# EAGLE library part 74F579SCX (library Fairchild_By_element14_Batch_1)
8-Bit Bidirectional Binary Counter
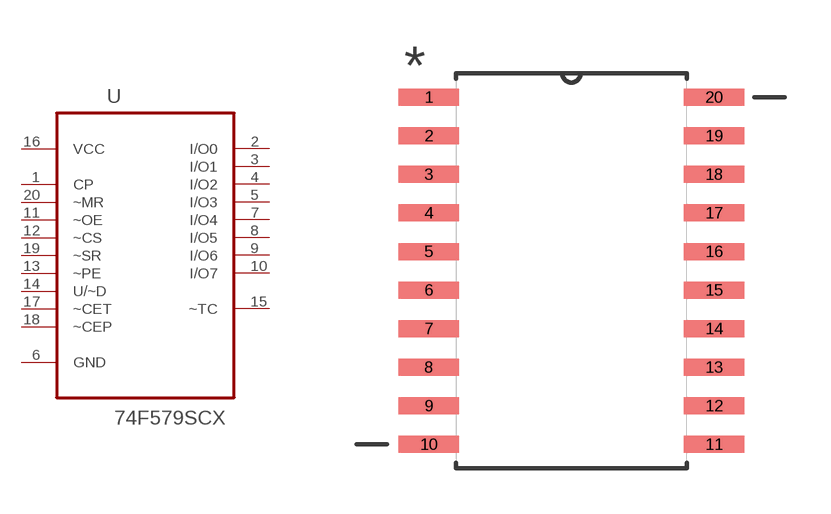
[diagram p64: symbol with the pads of SOIC127P1032X265-20N; footprint SOIC127P1032X265-20N]

Designator prefix U

## 74F579SCX (MPN: 74F579SCX; OC_FARNELL: -; OC_NEWARK: 38C7811; PACKAGE: SOIC-20; SUPPLIER: Fairchild)  [SOIC127P1032X265-20N]
1  CP  in
2  I/O0
3  I/O1
4  I/O2
5  I/O3
6  GND  pas
7  I/O4
8  I/O5
9  I/O6
10  I/O7
11  ~OE  in
12  ~CS  in
13  ~PE  in
14  U/~D  in
15  ~TC  out
16  VCC  pwr
17  ~CET  in
18  ~CEP  in
19  ~SR  in
20  ~MR  in

## Footprint SOIC127P1032X265-20N (pad centres in mm)
smd 1.981 x 0.559: 1 -4.699,5.715; 2 -4.699,4.445; 3 -4.699,3.175; 4 -4.699,1.905; 5 -4.699,0.635; 6 -4.699,-0.635; 7 -4.699,-1.905; 8 -4.699,-3.175; 9 -4.699,-4.445; 10 -4.699,-5.715; 11 4.699,-5.715; 12 4.699,-4.445; 13 4.699,-3.175; 14 4.699,-1.905; 15 4.699,-0.635; 16 4.699,0.635; 17 4.699,1.905; 18 4.699,3.175; 19 4.699,4.445; 20 4.699,5.715